# EAGLE library part LM386 (library SolderSync)
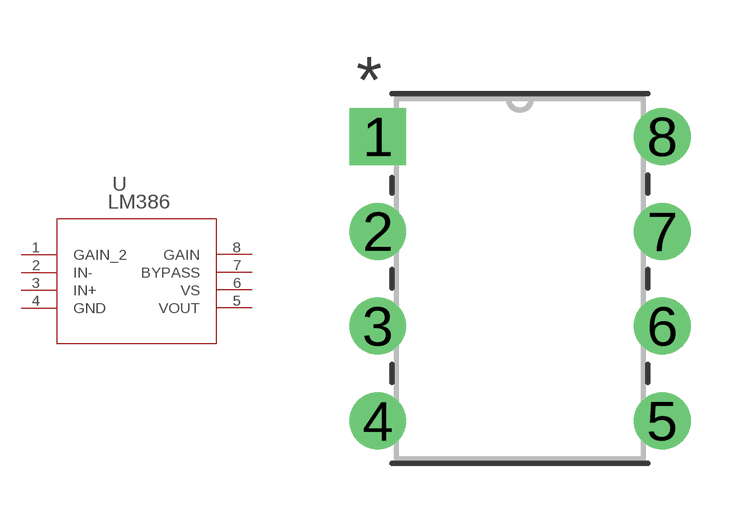
[diagram p7: symbol with the pads of N08E_TEX; footprint N08E_TEX]

Designator prefix U

## LM386_N-1 (COPYRIGHT: Copyright (C) 2024 Ultra Librarian. All rights reserved.; MANUFACTURER_PART_NUMBER: LM386N-1/NOPB; MFR_NAME: Texas Instruments)  [N08E_TEX]
1  GAIN_2  pas
2  IN-  in
3  IN+  in
4  GND  pwr
5  VOUT  out
6  VS  pwr
7  BYPASS  pas
8  GAIN  pas

## Footprint N08E_TEX (pad centres in mm)
drill 0.813 pad 1.524 square: 1 0,0
drill 0.813 pad 1.524: 2 0,-2.54; 3 0,-5.08; 4 0,-7.62; 5 7.62,-7.62; 6 7.62,-5.08; 7 7.62,-2.54; 8 7.62,0